# Altium footprint library Motors.PcbLib: 2 footprints
Each footprint in its own frame and in the unit in brackets; x right, y up, seen from the top. Pads: shape width x height; smd on the part's side, far side on the other; paste and mask are expansions set on the pad; w line width, h text height; cw(c..) or ccw(c..) is an arc to the next point about the centre after c.
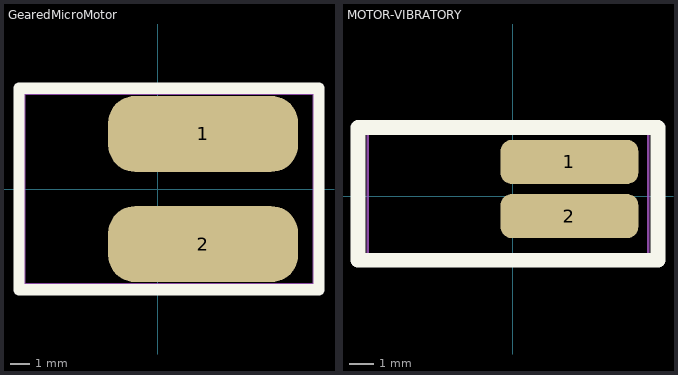
[diagram p0: the footprints below, top view; thin cyan lines are the x and y axes]

## GearedMicroMotor [mm]
pads (2):
  rrect70% 10x4 smd paste-99 mask+0.07: 1(2.4,2.9) 2(2.4,-2.9)
Top Overlay:
  lines w0.6: -7.3,-5.3 -7.3,5.3 8.5,5.3 8.5,-5.3 -7.3,-5.3
Assembly:
  lines w0.1: -7,-5 8.2,-5 8.2,5 -7,5 -7,-5
  text ".Designator" at -2.4,-0.3 h1.1
3D body "GearedMicroMotor.STEP": height 10.99, standoff -1.22, extent -7,-4.975 21.95,4.975

## MOTOR-VIBRATORY [mm]
pads (2):
  rrect50% 5.6x1.8 smd paste-99 mask+0.07: 1(2.3,1.4) 2(2.3,-0.8)
Top Overlay:
  lines w0.6: -6.3,-2.6 -6.3,2.8 5.9,2.8 5.9,-2.6 -6.3,-2.6
Assembly:
  lines w0.1: -5.9,-2.7 -5.9,2.6 5.5,2.6 5.5,-2.7 -5.9,-2.7
  text ".Designator" at -2.4,-0.3 h1.1
3D body "VibratoryMotor.STEP": height 4.05, standoff -0.2, extent -8.5,-2.75 7,2.648